# EAGLE library part LA4814JA (library Audio-Power-amlifier V.2.0)
The LA4814JA buili-in the power amplifier circuit capable of low-voltage (2.7V and up) operation and has additionally a standby function to reduce the current drain. It is a power amplifier IC optimal for speaker drive used in battery-driven portable equipment and other such products.
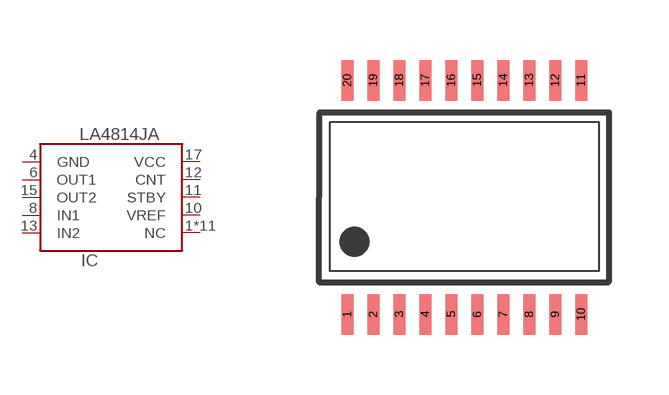
[diagram p254: symbol with the pads of SSOP20-225MIL; footprint SSOP20-225MIL]

Designator prefix IC

## LA4814JA  [SSOP20-225MIL]
1  NC  nc
2  NC  nc
3  NC  nc
4  GND  pwr
5  NC  nc
6  OUT1  out
7  NC  nc
8  IN1  in
9  NC  nc
10  VREF
11  STBY  in
12  CNT
13  IN2  in
14  NC  nc
15  OUT2  out
16  NC  nc
17  VCC  pwr
18  NC  nc
19  NC  nc
20  NC  nc

## Footprint SSOP20-225MIL (pad centres in mm)
Small Shrink Outline Package 225mil SANYO Semiconduktor
smd 0.3 x 1.016: 1 -2.925,-2.925; 2 -2.275,-2.925; 3 -1.625,-2.925; 4 -0.975,-2.925; 5 -0.325,-2.925; 6 0.325,-2.925; 7 0.975,-2.925; 8 1.625,-2.925; 9 2.275,-2.925; 10 2.925,-2.925; 11 2.925,2.925; 12 2.275,2.925; 13 1.625,2.925; 14 0.975,2.925; 15 0.325,2.925; 16 -0.325,2.925; 17 -0.975,2.925; 18 -1.625,2.925; 19 -2.275,2.925; 20 -2.925,2.925